# Altium footprint library WE-TPB.PcbLib: 6 footprints
Each footprint in its own frame and in the unit in brackets; x right, y up, seen from the top. Pads: shape width x height; smd on the part's side, far side on the other; paste and mask are expansions set on the pad; w line width, h text height; cw(c..) or ccw(c..) is an arc to the next point about the centre after c.
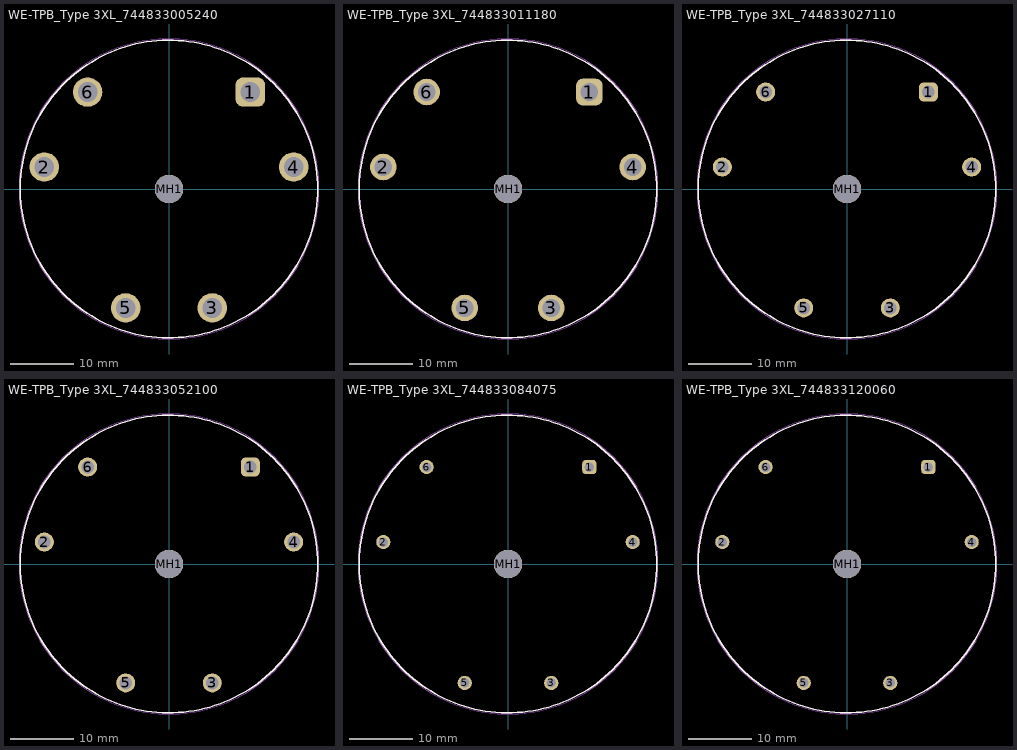
[diagram p0: the footprints below, top view; thin cyan lines are the x and y axes]

## WE-TPB_Type 3XL_744833005240 [mm] "Three Phase Common Mode Power Line Choke, body diameter 47mm"
height 39
pads (7):
  rrect50% 4.65x4.65 hole 3.1: 1(12.856,15.321)
  round 4.65 hole 3.1: 2(-19.696,3.473) 3(6.84,-18.794) 4(19.696,3.473) 5(-6.84,-18.794) 6(-12.856,15.321)
  round 4.5 hole 4.5 unplated: MH1(0,0)
Top Overlay:
  circle w0.2: c0,0 r23.5
Top Designator:
  text ".Designator" at -7.498,-0.5 h1.5
Top Component Outline:
  circle w0.1: c0,0 r23.5
Top 3D Body:
  circle w0.1: c0,0 r23.5
Top Courtyard:
  circle w0.05: c0,0 r23.7
  lines w0.05: -0.5,0 0.5,0 ; 0,-0.5 0,0.5
3D body "744833005240.stp": height 36.8, standoff -3.7, extent -22.442,-21.975 22.443,20.713

## WE-TPB_Type 3XL_744833011180 [mm] "Three Phase Common Mode Power Line Choke, body diameter 47mm"
height 39
pads (7):
  rrect50% 4.2x4.2 hole 2.8: 1(12.856,15.321)
  round 4.2 hole 2.8: 2(-19.696,3.473) 3(6.84,-18.794) 4(19.696,3.473) 5(-6.84,-18.794) 6(-12.856,15.321)
  round 4.5 hole 4.5 unplated: MH1(0,0)
Top Overlay:
  circle w0.2: c0,0 r23.5
Top Designator:
  text ".Designator" at -7.498,-0.5 h1.5
Top Component Outline:
  circle w0.1: c0,0 r23.5
Top 3D Body:
  circle w0.1: c0,0 r23.5
Top Courtyard:
  circle w0.05: c0,0 r23.7
  lines w0.05: -0.5,0 0.5,0 ; 0,-0.5 0,0.5
3D body "744833011180.stp": height 36.8, standoff -3.7, extent -22.442,-21.975 22.443,20.325

## WE-TPB_Type 3XL_744833027110 [mm] "Three Phase Common Mode Power Line Choke, body diameter 47mm"
height 39
pads (7):
  rrect50% 3x3 hole 2: 1(12.856,15.321)
  round 3 hole 2: 2(-19.696,3.473) 3(6.84,-18.794) 4(19.696,3.473) 5(-6.84,-18.794) 6(-12.856,15.321)
  round 4.5 hole 4.5 unplated: MH1(0,0)
Top Overlay:
  circle w0.2: c0,0 r23.5
Top Designator:
  text ".Designator" at -7.498,-0.5 h1.5
Top Component Outline:
  circle w0.1: c0,0 r23.5
Top 3D Body:
  circle w0.1: c0,0 r23.5
Top Courtyard:
  circle w0.05: c0,0 r23.7
  lines w0.05: -0.5,0 0.5,0 ; 0,-0.5 0,0.5
3D body "744833027110.stp": height 36.8, standoff -3.7, extent -22.442,-21.975 22.443,19.932

## WE-TPB_Type 3XL_744833052100 [mm] "Three Phase Common Mode Power Line Choke, body diameter 47mm"
height 39
pads (7):
  rrect50% 3x3 hole 2: 1(12.856,15.321)
  round 3 hole 2: 2(-19.696,3.473) 3(6.84,-18.794) 4(19.696,3.473) 5(-6.84,-18.794) 6(-12.856,15.321)
  round 4.5 hole 4.5 unplated: MH1(0,0)
Top Overlay:
  circle w0.2: c0,0 r23.5
Top Designator:
  text ".Designator" at -7.498,-0.5 h1.5
Top Component Outline:
  circle w0.1: c0,0 r23.5
Top 3D Body:
  circle w0.1: c0,0 r23.5
Top Courtyard:
  circle w0.05: c0,0 r23.7
  lines w0.05: -0.5,0 0.5,0 ; 0,-0.5 0,0.5
3D body "744833052100.stp": height 36.8, standoff -3.7, extent -22.442,-21.975 22.443,19.833

## WE-TPB_Type 3XL_744833084075 [mm] "Three Phase Common Mode Power Line Choke, body diameter 47mm"
height 39
pads (7):
  rrect50% 2.25x2.25 hole 1.5: 1(12.856,15.321)
  round 2.25 hole 1.5: 2(-19.696,3.473) 3(6.84,-18.794) 4(19.696,3.473) 5(-6.84,-18.794) 6(-12.856,15.321)
  round 4.5 hole 4.5 unplated: MH1(0,0)
Top Overlay:
  circle w0.2: c0,0 r23.5
Top Designator:
  text ".Designator" at -7.498,-0.5 h1.5
Top Component Outline:
  circle w0.1: c0,0 r23.5
Top 3D Body:
  circle w0.1: c0,0 r23.5
Top Courtyard:
  circle w0.05: c0,0 r23.7
  lines w0.05: -0.5,0 0.5,0 ; 0,-0.5 0,0.5
3D body "744833084075.stp": height 36.8, standoff -3.7, extent -22.442,-21.975 22.443,19.634

## WE-TPB_Type 3XL_744833120060 [mm] "Three Phase Common Mode Power Line Choke, body diameter 47mm"
height 39
pads (7):
  rrect50% 2.25x2.25 hole 1.5: 1(12.856,15.321)
  round 2.25 hole 1.5: 2(-19.696,3.473) 3(6.84,-18.794) 4(19.696,3.473) 5(-6.84,-18.794) 6(-12.856,15.321)
  round 4.5 hole 4.5 unplated: MH1(0,0)
Top Overlay:
  circle w0.2: c0,0 r23.5
Top Designator:
  text ".Designator" at -7.498,-0.5 h1.5
Top Component Outline:
  circle w0.1: c0,0 r23.5
Top 3D Body:
  circle w0.1: c0,0 r23.5
Top Courtyard:
  circle w0.05: c0,0 r23.7
  lines w0.05: -0.5,0 0.5,0 ; 0,-0.5 0,0.5
3D body "744833120060.stp": height 36.8, standoff -3.7, extent -22.442,-21.975 22.443,19.535